# EAGLE library part MATRIX_8X8_RED_11AA (library matrix)
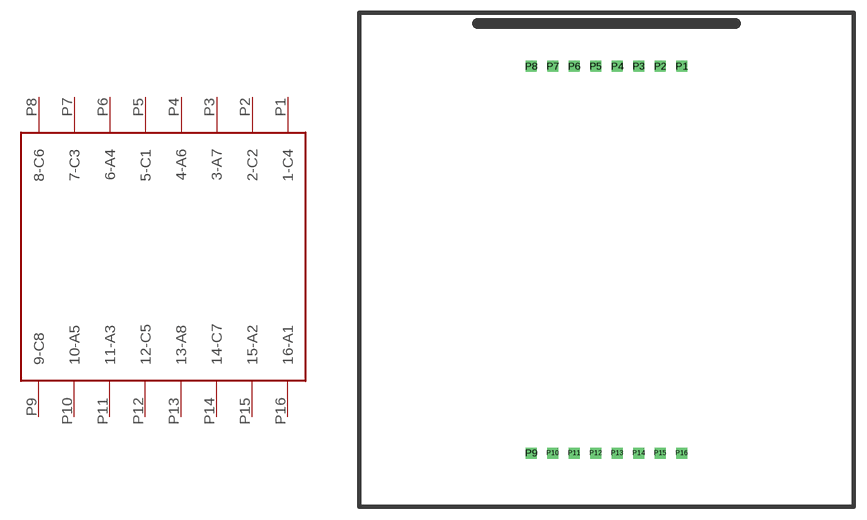
[diagram p2: symbol with the pads of MATRIX_60MM_16PIN; footprint MATRIX_60MM_16PIN]

Designator prefix -

## MATRIX_8X8_RED_11AA  [MATRIX_60MM_16PIN]
P1  1-C4
P2  2-C2
P3  3-A7
P4  4-A6
P5  5-C1
P6  6-A4
P7  7-C3
P8  8-C6
P9  9-C8
P10  10-A5
P11  11-A3
P12  12-C5
P13  13-A8
P14  14-C7
P15  15-A2
P16  16-A1

## Footprint MATRIX_60MM_16PIN (pad centres in mm)
drill 0.8 square: P1 8.89,22.86; P2 6.35,22.86; P3 3.81,22.86; P4 1.27,22.86; P5 -1.27,22.86; P6 -3.81,22.86; P7 -6.35,22.86; P8 -8.89,22.86; P9 -8.89,-22.86; P10 -6.35,-22.86; P11 -3.81,-22.86; P12 -1.27,-22.86; P13 1.27,-22.86; P14 3.81,-22.86; P15 6.35,-22.86; P16 8.89,-22.86